# Altium footprint library BASIC Library.PCBLIB: 464 footprints (part 8 of 30)
Each footprint in its own frame and in the unit in brackets; x right, y up, seen from the top. Pads: shape width x height; smd on the part's side, far side on the other; paste and mask are expansions set on the pad; w line width, h text height; cw(c..) or ccw(c..) is an arc to the next point about the centre after c.
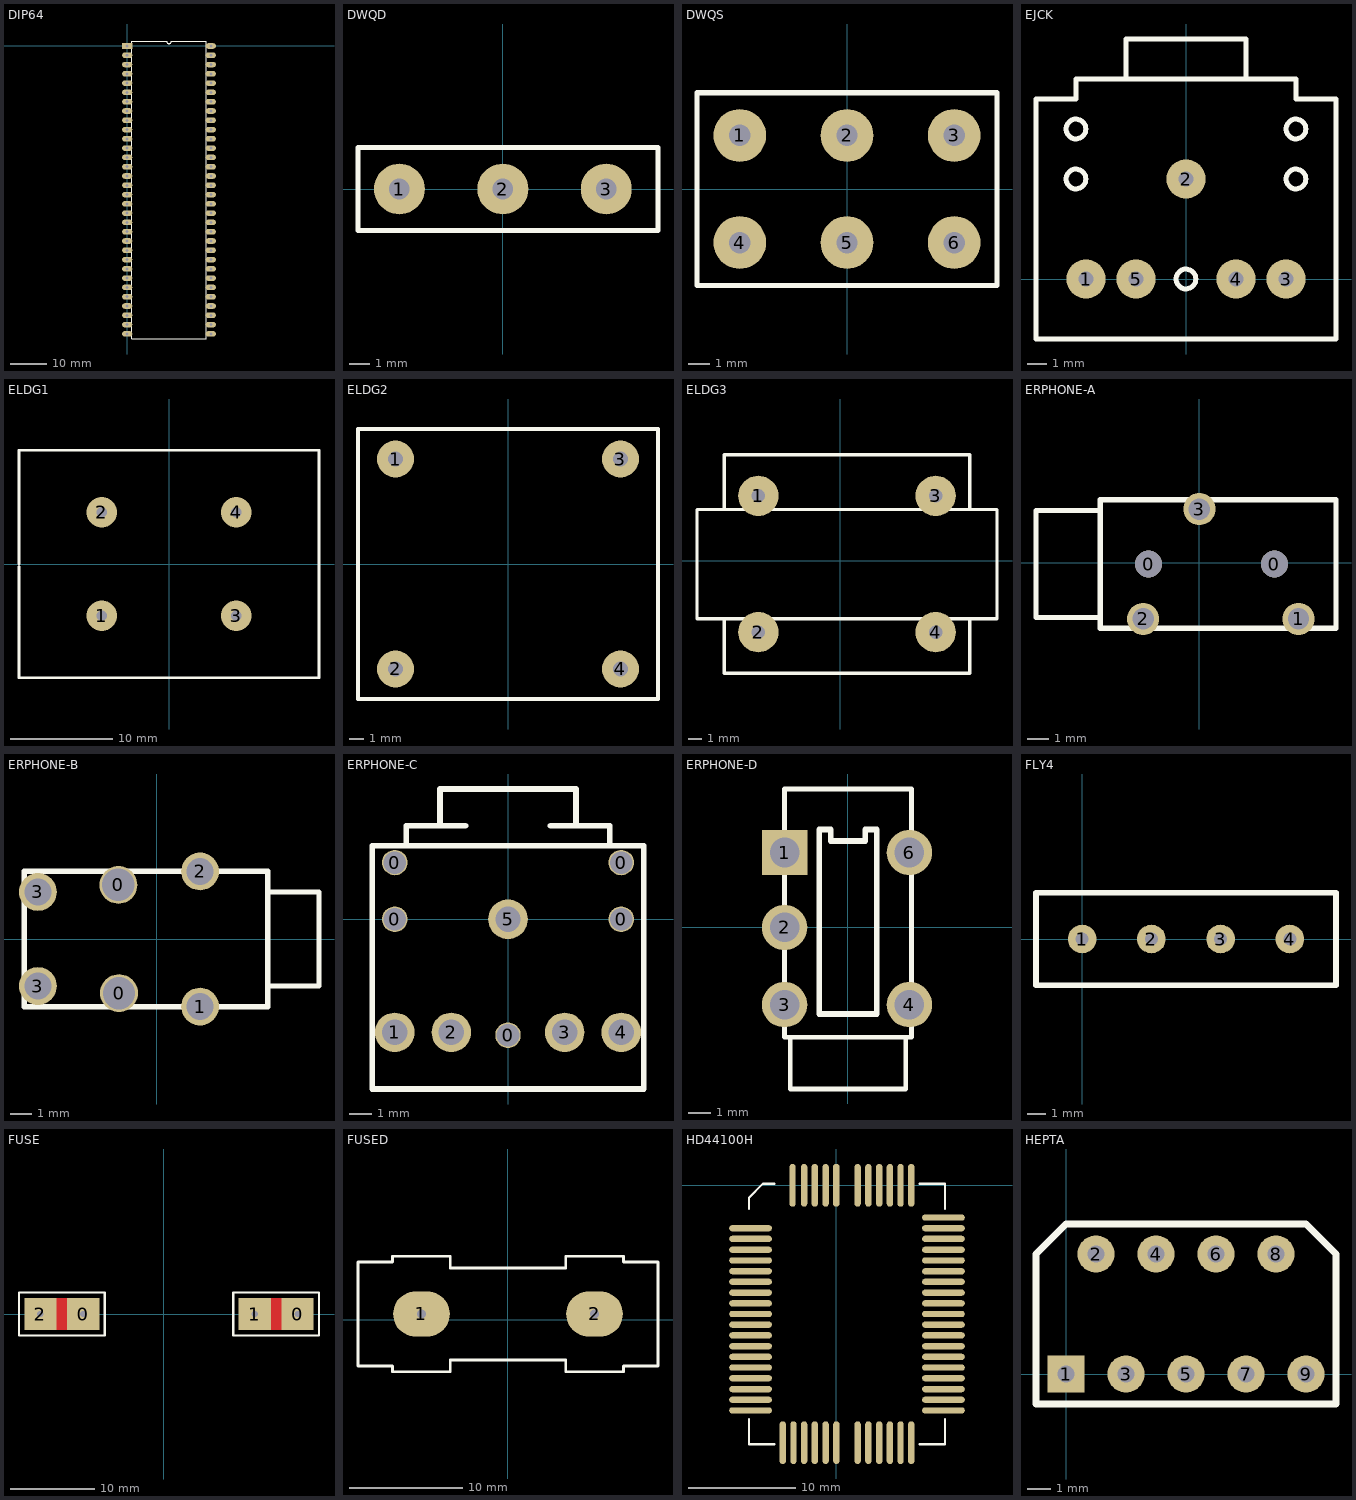
[diagram p7: the footprints below, top view; thin cyan lines are the x and y axes]

## DIP64 [mil]
pads (64):
  rect 110.24x60 hole 32: 1(0,0)
  oval 110.24x60 hole 32: 2(0,-100) 3(0,-200) 4(0,-300) 5(0,-400) 6(0,-500) 7(0,-600) 8(0,-700) 9(0,-800) 10(0,-900) 11(0,-1000) 12(0,-1100) 13(0,-1200) 14(0,-1300) 15(0,-1400) 16(0,-1500) 17(0,-1600) 18(0,-1700) 19(0,-1800) 20(0,-1900) 21(0,-2000) 22(0,-2100) 23(0,-2200) 24(0,-2300) 25(0,-2400) 26(0,-2500) 27(0,-2600) 28(0,-2700) 29(0,-2800) 30(0,-2900) 31(0,-3000) 32(0,-3100) 33(900,-3100) 34(900,-3000) 35(900,-2900) 36(900,-2800) 37(900,-2700) 38(900,-2600) 39(900,-2500) 40(900,-2400) 41(900,-2300) 42(900,-2200) 43(900,-2100) 44(900,-2000) 45(900,-1900) 46(900,-1800) 47(900,-1700) 48(900,-1600) 49(900,-1500) 50(900,-1400) 51(900,-1300) 52(900,-1200) 53(900,-1100) 54(900,-1000) 55(900,-900) 56(900,-800) 57(900,-700) 58(900,-600) 59(900,-500) 60(900,-400) 61(900,-300) 62(900,-200) 63(900,-100) 64(900,0)
TopOverlay:
  lines w10: 50,-3150 850,-3150 850,50 475,50 cw(c450,50) 425,50 50,50 50,-3150

## DWQD [mm]
pads (3):
  round 2.5 hole 1.016: 1(-5.08,0) 2(0,0) 3(5.08,0)
TopOverlay:
  lines w0.254: -7.112,-2.032 -7.112,2.032 7.62,2.032 7.62,-2.032 -7.112,-2.032

## DWQS [mm]
pads (6):
  round 2.5 hole 1.016: 1(-5.08,2.54) 2(0,2.54) 3(5.08,2.54) 4(-5.08,-2.54) 5(0,-2.54) 6(5.08,-2.54)
TopOverlay:
  lines w0.254: -7.112,-4.572 7.112,-4.572 7.112,4.572 -7.112,4.572 -7.112,-4.572

## EJCK [mm]
pads (5):
  round 2 hole 0.762: 1(-5.08,0) 2(0,5.08) 3(5.08,0) 4(2.54,0) 5(-2.54,0)
TopOverlay:
  circle w0.254: c-5.588,5.08 r0.5
  circle w0.254: c5.588,5.08 r0.5
  circle w0.254: c-5.588,7.62 r0.5
  circle w0.254: c5.588,7.62 r0.5
  circle w0.254: c0,0 r0.5
  lines w0.254: -3.048,10.16 3.048,10.16 ; -3.048,10.16 -3.048,12.192 3.048,12.192 3.048,10.16 ; -3.048,10.16 -5.588,10.16 -5.588,9.144 -7.62,9.144 -7.62,-3.048 7.62,-3.048 7.62,9.144 5.588,9.144 5.588,10.16 3.048,10.16

## ELDG1 [mil]
pads (4):
  round 118.11 hole 40: 1(-260,-200) 2(-260,200) 3(260,-200) 4(260,200)
TopOverlay:
  lines w10: -580,-10 -580,-440 580,-440 580,0 580,440 -480,440 -580,440 -580,0

## ELDG2 [mil]
pads (4):
  round 98.42 hole 40: 1(-300,280) 2(-300,-280) 3(300,280) 4(300,-280)
TopOverlay:
  lines w10: -400,-360 400,-360 400,360 -400,360 -400,-360

## ELDG3 [mil]
pads (4):
  round 118.11 hole 40: 1(-240,190) 2(-240,-210) 3(280,190) 4(280,-210)
TopOverlay:
  lines w10: -340,-170 -340,-330 20,-330 380,-330 380,-170 ; -340,150 -340,310 20,310 380,310 380,150 ; -420,-170 20,-170 460,-170 460,150 20,150 -420,150 -420,-170

## ERPHONE-A [mil]
pads (5):
  round 50 hole 50: 0(-95,-2.5) 0(140,-2.5)
  round 60 hole 40: 1(185,-105) 2(-105,-105) 3(0,100)
TopOverlay:
  lines w10: -185,-102.5 -305,-102.5 -305,97.5 -185,97.5 ; -185,-122.5 -185,117.5 255,117.5 255,-122.5 -185,-122.5

## ERPHONE-B [mil]
pads (6):
  round 70 hole 60: 0(-71,100) 0(-70,-100)
  round 70 hole 50: 1(80,-125) 2(80,125) 3(-220,-87) 3(-220,87)
TopOverlay:
  lines w10: 205,-87 300,-87 300,87 205,87 ; -245,-125 205,-125 205,125 -245,125 -245,-125

## ERPHONE-C [mil]
pads (10):
  round 45 hole 40: 0(-200,0) 0(-200,100) 0(0,-205) 0(200,0) 0(200,100)
  round 70 hole 45: 1(-200,-200) 2(-100,-200) 3(100,-200) 4(200,-200) 5(0,0)
TopOverlay:
  lines w10: -75,165 -120,165 ; 75,165 120,165 ; -180,130 180,130 ; -180,130 -240,130 -240,-300 240,-300 240,130 180,130 ; -180,130 -180,165 -120,165 ; -120,165 -120,230 120,230 120,165 ; 120,165 180,165 180,130

## ERPHONE-D [mm]
pads (5):
  rect 2x2 hole 1.3: 1(-2.794,3.3)
  round 2 hole 1.3: 2(-2.794,0) 3(-2.794,-3.4) 4(2.706,-3.4) 6(2.706,3.3)
TopOverlay:
  lines w0.203: -2.54,-4.826 -2.54,-7.112 2.54,-7.112 2.54,-4.826 ; -2.794,-4.826 -2.794,6.096 2.54,6.096 2.794,6.096 2.794,-4.826 -2.794,-4.826
  lines w0.254: -1.27,-3.812 1.27,-3.812 1.27,4.316 0.762,4.316 0.762,3.808 -0.254,3.808 -0.762,3.808 -0.762,4.316 -1.27,4.316 -1.27,-3.812

## FLY4 [mil]
pads (4):
  round 62 hole 28: 1(0,0) 2(150,0) 3(300,0) 4(450,0)
TopOverlay:
  lines w12: -100,-100 550,-100 550,100 -100,100 -100,-100

## FUSE [mil]
pads (4):
  rect 150x150 hole 30: 0(-375,0) 0(625,0) 1(425,0) 2(-575,0)
TopLayer:
  rectangle: -525,-75 -425,75
  rectangle: 475,-75 575,75
BottomLayer:
  rectangle: -525,-75 -425,75
  rectangle: 475,-75 575,75
TopOverlay:
  lines w10: -675,-100 -275,-100 -275,100 -675,100 -675,-100 ; 325,-100 725,-100 725,100 325,100 325,-100

## FUSED [mil]
pads (2):
  oval 196.85x157.48 hole 30: 1(-300,20) 2(300,20)
TopOverlay:
  lines w10: -520,-160 -520,200 -400,200 -400,220 -200,220 -200,180 0,180 200,180 200,220 400,220 400,200 520,200 520,-160 400,-160 400,-180 200,-180 200,-140 0,-140 -200,-140 -200,-180 -400,-180 -400,-160 -520,-160

## HD44100H [mil]
pads (60):
  oct 23.33x156.67 smd: 1(0,0)
  oval 23.33x156.67 smd: 2(-38.33,0) 3(-78.33,0) 4(-117.5,0) 5(-160,0) 24(-195.83,-945) 25(-156.67,-945) 26(-117.5,-945) 27(-78.33,-945) 28(-38.33,-945) 29(0.83,-945) 30(79.17,-945) 31(118.33,-945) 32(158.33,-945) 33(197.5,-945) 34(236.67,-945) 35(275.83,-945) 55(275.83,0) 56(236.67,0) 57(197.5,0) 58(158.33,0) 59(118.33,0) 60(79.17,0)
  oval 156.67x23.33 smd: 6(-314.17,-157.5) 7(-314.17,-196.67) 8(-314.17,-236.67) 9(-314.17,-275.83) 10(-314.17,-315) 11(-314.17,-354.17) 12(-314.17,-394.17) 13(-314.17,-433.33) 14(-314.17,-472.5) 15(-314.17,-511.67) 16(-314.17,-550.83) 17(-314.17,-590.83) 18(-314.17,-630) 19(-314.17,-669.17) 20(-314.17,-708.33) 21(-314.17,-748.33) 22(-314.17,-787.5) 23(-314.17,-826.67) 36(394.17,-826.67) 37(394.17,-787.5) 38(394.17,-748.33) 39(394.17,-708.33) 40(394.17,-669.17) 41(394.17,-630) 42(394.17,-590.83) 43(394.17,-550.83) 44(394.17,-511.67) 45(394.17,-472.5) 46(394.17,-433.33) 47(394.17,-394.17) 48(394.17,-354.17) 49(394.17,-315.7) 50(394.17,-275.83) 51(394.17,-236.67) 52(394.17,-196.67) 53(394.17,-157.5) 54(394.17,-118.33)
TopOverlay:
  lines w7.87: -320,-858.02 -320,-950.83 -227.19,-950.83 ; -320,-86.98 -320,-45.2 -268.96,5.83 -227.19,5.83 ; 307.19,-950.83 400,-950.83 400,-858.02 ; 307.19,5.83 400,5.83 400,-86.98

## HEPTA [mil]
pads (9):
  rect 62x62 hole 28: 1(0,0)
  round 62 hole 28: 2(50,200) 3(100,0) 4(150,200) 5(200,0) 6(250,200) 7(300,0) 8(350,200) 9(400,0)
TopOverlay:
  lines w12: -50,-50 -50,200 0,250 400,250 450,200 450,-50 -50,-50